# EAGLE library part QUAD_TRANS (library NewSDR)
1 Iinch Binocular Core Transformer
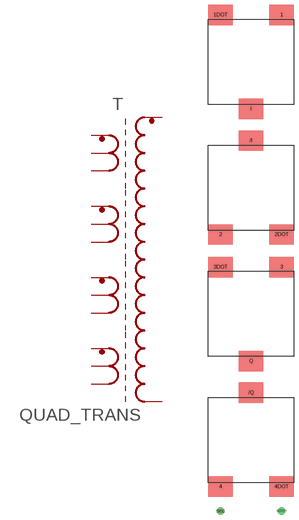
[diagram p2: symbol with the pads of QUAD_BINOCULAR; footprint QUAD_BINOCULAR]

Designator prefix T

## QUAD_TRANS  [QUAD_BINOCULAR]
1  PRI1  pas
1DOT  PRIDOT1  pas
2  PRI2  pas
2DOT  PRIDOT2  pas
3  PRI3  pas
3DOT  PRIDOT3  pas
4  PRI4  pas
4DOT  PRIDOT4  pas
/I  PRICT2  pas
/Q  PRICT4  pas
I  PRICT1  pas
Q  PRICT3  pas
SEC  SEC  pas
SECDOT  SECDOT  pas

## Footprint QUAD_BINOCULAR (pad centres in mm)
Quadrature Binocular Transformer Assembly
smd 7.62 x 6.35: 1 8.89,25.4; 1DOT -10.16,25.4; 2 -10.16,-43.18; 2DOT 8.89,-43.18; 3 8.89,-53.34; 3DOT -10.16,-53.34; 4 -10.16,-121.92; 4DOT 8.89,-121.92; /I -0.635,-13.843; /Q -0.635,-92.583; I -0.635,-3.937; Q -0.635,-82.677
drill 1.5: SEC -10.16,-129.54; SECDOT 8.89,-129.54